# EAGLE library part CAT24C256 (library STMBerry)
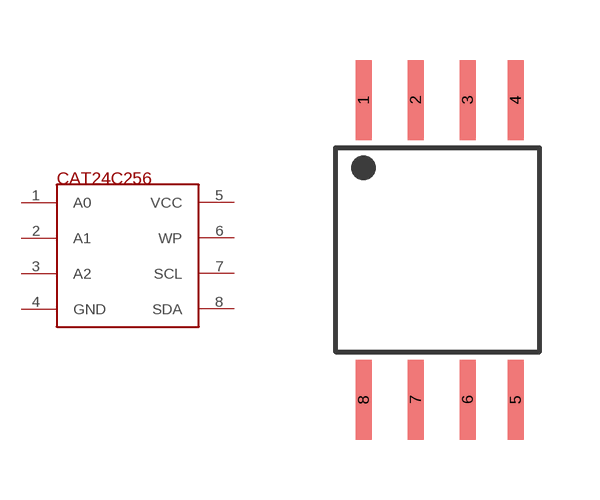
[diagram p3: symbol with the pads of SOIC-8; footprint SOIC-8]

Designator prefix -

## CAT24C256  [SOIC-8]
1  A0
2  A1
3  A2
4  GND
5  VCC
6  WP
7  SCL
8  SDA

## Footprint SOIC-8 (pad centres in mm)
smd 0.4 x 2: 1 -0.8,6.4; 2 0.5,6.4; 3 1.8,6.4; 4 3,6.4; 5 3,-1.1; 6 1.8,-1.1; 7 0.5,-1.1; 8 -0.8,-1.1